# Altium footprint library ARDUINO_UNO_CH340.PcbLib: 28 footprints (part 2 of 2)
Each footprint in its own frame and in the unit in brackets; x right, y up, seen from the top. Pads: shape width x height; smd on the part's side, far side on the other; paste and mask are expansions set on the pad; w line width, h text height; cw(c..) or ccw(c..) is an arc to the next point about the centre after c.
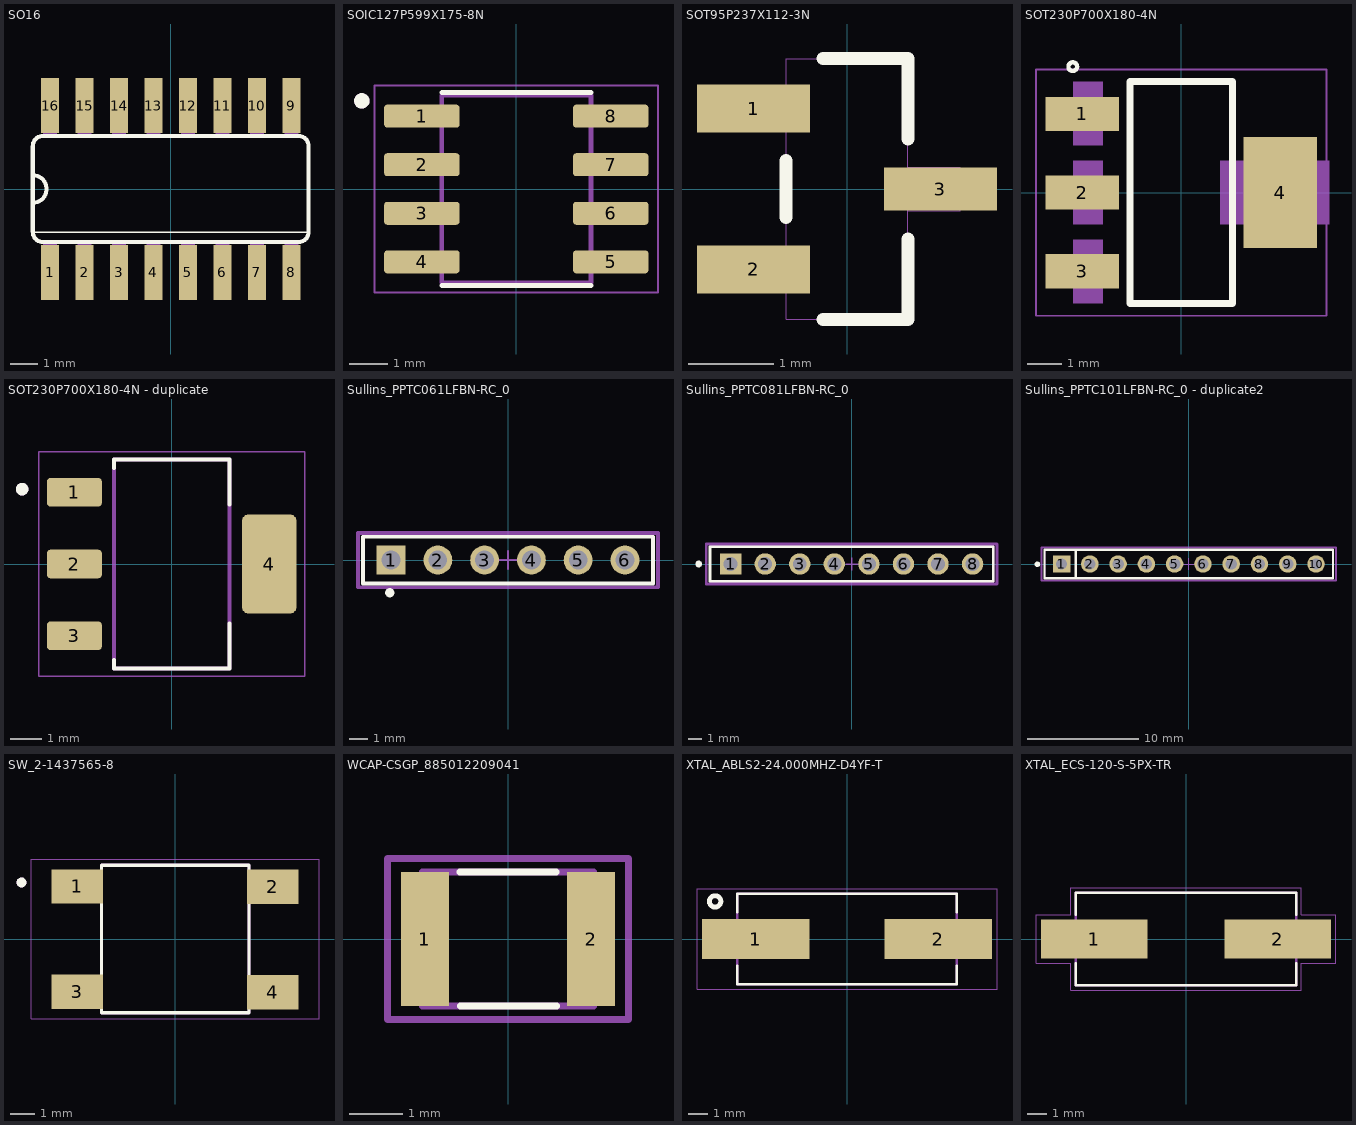
[diagram p1: the footprints below, top view; thin cyan lines are the x and y axes]

## SO16 [mil]
pads (16):
  rect 26x80 smd: 1(-175,-121) 2(-125,-121) 3(-75,-121) 4(-25,-121) 5(25,-121) 6(75,-121) 7(125,-121) 8(175,-121) 9(175,121) 10(125,121) 11(75,121) 12(25,121) 13(-25,121) 14(-75,121) 15(-125,121) 16(-175,121)
Top Overlay:
  lines w2: -200,-63 200,-63
  lines w6: -200,-20 ccw(c-200,0) -200,20 ; -200,-20 -200,20 ; -200,-20 -200,-62 ccw(c-185,-62) -185,-77 185,-77 ccw(c185,-62) 200,-62 200,62 ccw(c185,62) 185,77 -185,77 ccw(c-185,62) -200,62 -200,20
Mechanical 13:
  region: -15,77 -35,77 -35,122 -15,122
  region: -165,-122 -185,-122 -185,-77 -165,-77
  region: -115,-122 -135,-122 -135,-77 -115,-77
  region: -65,-121 -85,-121 -85,-76 -65,-76
  region: -15,-122 -35,-122 -35,-77 -15,-77
  region: -65,77 -85,77 -85,122 -65,122
  region: -115,77 -135,77 -135,122 -115,122
  region: -165,77 -185,77 -185,122 -165,122
  region: 35,-122 15,-122 15,-77 35,-77
  region: 85,-122 65,-122 65,-77 85,-77
  region: 135,-122 115,-122 115,-77 135,-77
  region: 185,-122 165,-122 165,-77 185,-77
  region: 35,77 15,77 15,122 35,122
  region: 85,77 65,77 65,122 85,122
  region: 135,77 115,77 115,122 135,122
  region: 185,77 165,77 165,122 185,122
3D body "User Library-SOP16_208mil (5_3mm).STEP": height 77.37, standoff -1.37, extent -197.49,-156.15 204.09,155.7

## SOIC127P599X175-8N [mm]
pads (8):
  rrect25% 1.97x0.6 smd: 1(-2.47,1.905) 2(-2.47,0.635) 3(-2.47,-0.635) 4(-2.47,-1.905) 5(2.47,-1.905) 6(2.47,-0.635) 7(2.47,0.635) 8(2.47,1.905)
Top Overlay:
  circle w0.2: c-4.04,2.305 r0.1
  lines w0.127: -1.95,-2.525 1.95,-2.525 ; -1.95,2.525 1.95,2.525
Mechanical 13:
  circle w0.2: c-4.04,2.305 r0.1
  lines w0.127: -1.95,-2.452 -1.95,2.452 1.95,2.452 1.95,-2.452 -1.95,-2.452
Mechanical 15:
  lines w0.05: -3.705,-2.702 -3.705,2.702 3.705,2.702 3.705,-2.702 -3.705,-2.702
3D body "LM358M.STEP": height 1.73, standoff -0.03, extent -2.997,-2.45 2.997,2.453

## SOT95P237X112-3N [mil]
pads (3):
  rect 52x22 smd: 1(-43,37) 2(-43,-37)
  rect 52x20 smd: 3(43,0)
Top Overlay:
  lines w6: -28,-13 -28,13 ; -11,-60 28,-60 28,-23 ; -11,60 12,60 28,60 28,23
Mechanical 13:
  lines w0: -28,-47 -28,-60 28,-60 28,-10 ; -28,-47 -28,-28 ; -28,-47 -52,-47 -52,-28 -28,-28 ; -28,-28 -28,28 ; -28,28 -28,47 ; -28,28 -52,28 -52,47 -28,47 ; -28,47 -28,60 -12,60 12,60 28,60 28,10 ; 28,-10 28,10 ; 28,-10 52,-10 52,10 28,10
3D body "fdn340p.step": height 37.12, standoff -0.88, extent -49.21,-57.48 50,57.48

## SOT230P700X180-4N [mm]
pads (4):
  rect 2.15x1 smd: 1(-2.9,2.3) 2(-2.9,0) 3(-2.9,-2.3)
  rect 2.15x3.25 smd: 4(2.9,0)
Top Overlay:
  circle w0.127: c-3.175,3.683 r0.127
  lines w0.203: -1.5,-3.25 1.5,-3.25 1.5,3.25 -1.5,3.25 -1.5,-3.25
Mechanical 13:
  region: 4.331,-0.929 1.132,-0.929 1.132,0.927 4.331,0.927
  region: -2.299,-0.927 -3.164,-0.927 -3.164,0.927 -2.299,0.927
  region: -2.299,1.386 -3.166,1.386 -3.166,3.238 -2.299,3.238
  region: -2.299,-3.242 -3.165,-3.242 -3.165,-1.384 -2.299,-1.384
  region: 4.331,-0.929 1.132,-0.929 1.132,0.927 4.331,0.927
  region: -2.299,-0.928 -3.164,-0.928 -3.164,0.927 -2.299,0.927
  region: -2.299,1.387 -3.167,1.387 -3.167,3.238 -2.299,3.238
  region: -2.299,-3.241 -3.165,-3.241 -3.165,-1.384 -2.299,-1.384
Mechanical 15:
  lines w0.05: -4.25,-3.6 4.25,-3.6 4.25,3.6 -4.25,3.6 -4.25,-3.6
3D body "ncp1117st50t3g.step": height 1.65, standoff -0.03, extent -3.119,-3.198 3.881,3.302

## SOT230P700X180-4N - duplicate [mm]
pads (4):
  rrect25% 1.76x0.92 smd: 1(-3.125,2.3) 2(-3.125,0) 3(-3.125,-2.3)
  rrect25% 1.76x3.19 smd: 4(3.125,0)
Top Overlay:
  circle w0.2: c-4.8,2.4 r0.1
  lines w0.127: -1.85,-3.075 -1.85,-3.35 1.85,-3.35 1.85,-1.91 ; -1.85,3.075 -1.85,3.35 1.85,3.35 1.85,1.91
Mechanical 13:
  circle w0.2: c-4.8,2.4 r0.1
  lines w0.127: -1.85,-3.35 -1.85,3.35 1.85,3.35 1.85,-3.35 -1.85,-3.35
Mechanical 15:
  lines w0.05: -4.26,-3.6 4.26,-3.6 4.26,3.6 -4.26,3.6 -4.26,-3.6
3D body "DB.STEP": height 1.8, standoff 0, extent -3.537,-3.256 3.46,3.244

## Sullins_PPTC061LFBN-RC_0 [mm]
pads (6):
  rect 1.57x1.57 hole 1.02 paste-1000 mask+0: 1(-6.35,0)
  round 1.57 hole 1.02 paste-1000 mask+0: 2(-3.81,0) 3(-1.27,0) 4(1.27,0) 5(3.81,0) 6(6.35,0)
Top Overlay:
  circle w0.25: c-6.42,-1.775 r0.125
  lines w0.2: -7.87,-1.27 -7.87,1.27 7.87,1.27 7.87,-1.27 -7.87,-1.27
Mechanical 10:
  lines w0.2: -8.145,-1.47 -8.145,1.47 8.145,1.47 8.145,-1.47 -8.145,-1.47
  text ".Designator" at 0,0 h1
Mechanical 12:
  lines w0.15: -7.87,-1.27 -7.87,1.27 7.87,1.27 7.87,-1.27 -7.87,-1.27
Mechanical 15:
  lines w0.1: -0.5,0 0.5,0 ; 0,-0.5 0,0.5
  lines w0.2: -8.145,-1.47 -8.145,1.47 8.145,1.47 8.145,-1.47 -8.145,-1.47
3D body "Conn_Sullins_PPTC061LFBN-RC_eec.STEP": height 0.25, standoff 0, extent -8.145,-1.47 8.145,1.47

## Sullins_PPTC081LFBN-RC_0 [mm]
pads (8):
  rect 1.57x1.57 hole 1.02 paste-1000 mask+0: 1(-8.89,0)
  round 1.57 hole 1.02 paste-1000 mask+0: 2(-6.35,0) 3(-3.81,0) 4(-1.27,0) 5(1.27,0) 6(3.81,0) 7(6.35,0) 8(8.89,0)
Top Overlay:
  circle w0.25: c-11.235,0 r0.125
  lines w0.2: -10.41,-1.27 -10.41,1.27 10.41,1.27 10.41,-1.27 -10.41,-1.27
Mechanical 10:
  lines w0.2: -10.685,-1.47 -10.685,1.47 10.685,1.47 10.685,-1.47 -10.685,-1.47
  text ".Designator" at 0,0 h1
Mechanical 12:
  lines w0.15: -10.41,-1.27 -10.41,1.27 10.41,1.27 10.41,-1.27 -10.41,-1.27
Mechanical 15:
  lines w0.1: -0.441,0 0.441,0 ; 0,-0.441 0,0.441
  lines w0.2: -10.685,-1.47 -10.685,1.47 10.685,1.47 10.685,-1.47 -10.685,-1.47
3D body "3dmodel.step": height 0.25, standoff 0, extent -10.685,-1.47 10.685,1.47

## Sullins_PPTC101LFBN-RC_0 - duplicate2 [mm]
pads (10):
  rect 1.57x1.57 hole 1.02 paste-1000 mask+0: 1(-11.43,0)
  round 1.57 hole 1.02 paste-1000 mask+0: 2(-8.89,0) 3(-6.35,0) 4(-3.81,0) 5(-1.27,0) 6(1.27,0) 7(3.81,0) 8(6.35,0) 9(8.89,0) 10(11.43,0)
Top Overlay:
  circle w0.25: c-13.6,-0.025 r0.125
  lines w0.2: -10.16,-1.27 -10.16,1.27 ; -12.95,-1.27 -12.95,1.27 12.95,1.27 12.95,-1.27 -12.95,-1.27
Mechanical 10:
  lines w0.2: -13.225,-1.47 -13.225,1.47 13.225,1.47 13.225,-1.47 -13.225,-1.47
  text ".Designator" at 0,0 h1
Mechanical 12:
  lines w0.15: -12.95,-1.27 -12.95,1.27 12.95,1.27 12.95,-1.27 -12.95,-1.27
Mechanical 15:
  lines w0.1: -0.5,0 0.5,0 ; 0,-0.5 0,0.5
  lines w0.2: -13.225,-1.47 -13.225,1.47 13.225,1.47 13.225,-1.47 -13.225,-1.47
3D body "3dmodel.step": height 0.25, standoff 0, extent -13.225,-1.47 13.225,1.47

## SW_2-1437565-8 [mm]
pads (4):
  rect 2.1x1.4 smd: 1(-3.974,2.135) 2(3.974,2.123) 3(-3.974,-2.148) 4(3.974,-2.168)
Top Overlay:
  circle w0.2: c-6.25,2.3 r0.1
  lines w0.127: -3,-3 -3,3 3,3 3,-3 -3,-3
Mechanical 13:
  circle w0.2: c-6.25,2.3 r0.1
  lines w0.127: -3,-3 3,-3 3,3 -3,3 -3,-3
Mechanical 15:
  lines w0.05: -5.85,-3.25 5.85,-3.25 5.85,3.25 -5.85,3.25 -5.85,-3.25
3D body "Push Tactile Button SPST-NO 6x6mm L=5mm Omron B3F-1020.step": height 4.13, standoff -3.37, extent -3.85,-3 3.85,3

## WCAP-CSGP_885012209041 [mm]
pads (2):
  rect 0.9x2.5 smd: 1(-1.55,0) 2(1.55,0)
Top Overlay:
  lines w0.127: -0.9,1.25 0.9,1.25 ; -0.89,-1.25 0.91,-1.25
Mechanical 13:
  lines w0.127: -1.6,-1.25 -1.1,-1.25 1.1,-1.25 1.6,-1.25 1.6,1.25 1.1,1.25 -1.1,1.25 -1.6,1.25 -1.6,-1.25
Mechanical 15:
  lines w0.127: -2.25,-1.5 2.25,-1.5 2.25,1.5 -2.25,1.5 -2.25,-1.5
3D body "885012209041.STEP": height 0.96, standoff 0.01, extent -1.6,-1.25 1.6,1.25

## XTAL_ABLS2-24.000MHZ-D4YF-T [mm]
pads (2):
  rect 5.6x2.1 smd: 1(-4.75,0) 2(4.75,0)
Top Overlay:
  circle w0.254: c-6.858,1.956 r0.296
  lines w0.127: -5.7,-1.4 -5.7,-2.35 5.7,-2.35 5.7,-1.4 ; -5.7,1.4 -5.7,2.35 5.7,2.35 5.7,1.4
Mechanical 13:
  lines w0.127: -5.7,-2.35 5.7,-2.35 5.7,2.35 -5.7,2.35 -5.7,-2.35
Mechanical 15:
  lines w0.05: -7.8,-2.6 7.8,-2.6 7.8,2.6 -7.8,2.6 -7.8,-2.6
3D body "ABLS-16.000MHZ-B4.STEP": height 4.03, standoff -0.03, extent -6.35,-2.476 6.35,2.35

## XTAL_ECS-120-S-5PX-TR [mm]
pads (2):
  rect 5.5x2 smd: 1(-4.75,0) 2(4.75,0)
Top Overlay:
  lines w0.127: -5.7,-1.254 -5.7,-2.4 5.7,-2.4 5.7,-1.254 ; -5.7,1.254 -5.7,2.4 5.7,2.4 5.7,1.254
Mechanical 13:
  lines w0.127: -5.7,-2.4 5.7,-2.4 5.7,2.4 -5.7,2.4 -5.7,-2.4
Mechanical 15:
  lines w0.05: -7.75,-1.25 -7.75,1.25 -5.95,1.25 -5.95,2.65 5.95,2.65 5.95,1.25 7.75,1.25 7.75,-1.25 5.95,-1.25 5.95,-2.65 -5.95,-2.65 -5.95,-1.25 -7.75,-1.25
3D body "ECS-120-S-5PX-TR.STEP": height 4.31, standoff 0.01, extent -6.529,-2.404 6.671,2.396